# Altium schematic symbol library REF7050QDGKR.SchLib: 1 symbol
Pins are listed as number, name and electrical type; pins without a type are passive.

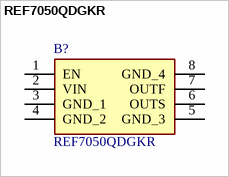
[diagram p0: symbol REF7050QDGKR]

## REF7050QDGKR
designator B?
Voltage References REF70XX  5.0 V LOW NOISE DGK; Manufacturer_Name: Texas Instruments; Geometry.Height: 1.1mm; Mouser Part Number: *; Mouser Price/Stock: *; Manufacturer_Part_Number: REF7050QDGKR; Datasheet Link: https://www.ti.com/lit/ds/symlink/ref70.pdf?ts=1705897089094&ref_url=https%253A%252F%252Fwww.mouser.mx%252F
footprint SOP65P490X110-8N
pins: 1 EN, 2 VIN, 3 GND_1, 4 GND_2, 5 GND_3, 6 OUTS, 7 OUTF, 8 GND_4